# Altium schematic symbol library 2137160001.SchLib: 1 symbol
Pins are listed as number, name and electrical type; pins without a type are passive.

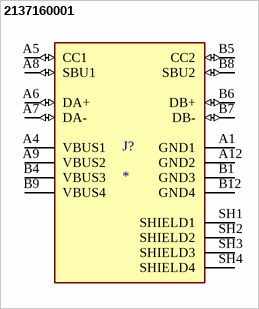
[diagram p0: symbol 2137160001]

## 2137160001
designator J?
USB-C (USB TYPE-C) USB 2.0 Receptacle Connector 24 (16+8 Dummy) Position Through Hole, Right Angle; MF: Molex; MP: 2137160001; SnapEDA_Link: https://www.snapeda.com/parts/2137160001/Molex/view-part/?ref=snap; Package: None; Value: *; Check_prices: https://www.snapeda.com/parts/2137160001/Molex/view-part/?ref=eda
footprint MOLEX_2137160001
pins: A1 GND1 (power), A4 VBUS1 (power), A5 CC1 (io), A6 DA+ (io), A7 DA- (io), A8 SBU1 (io), A9 VBUS2 (power), A12 GND2 (power), B1 GND3 (power), B4 VBUS3 (power), B5 CC2 (io), B6 DB+ (io), B7 DB- (io), B8 SBU2 (io), B9 VBUS4 (power), B12 GND4 (power), SH1 SHIELD1, SH2 SHIELD2, SH3 SHIELD3, SH4 SHIELD4